# Altium integrated library DF01S.IntLib: 1 symbol
Pins are listed as number, name and electrical type; pins without a type are passive.

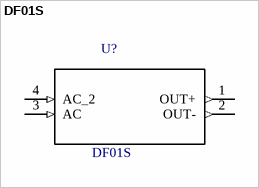
[diagram p0: symbol DF01S]

## DF01S
designator U?
Bridge Rectifier Single Phase Standard 100V Surface Mount DF-S; MF: ON Semiconductor; Price: None; Package: SMD-4 ON Semiconductor; SnapEDA_Link: https://www.snapeda.com/parts/DF01S/ON%20Semiconductor/view-part/2587579/?ref=snap; MP: DF01S; Availability: Unavailable; Value: *
footprint *SOT508P985X260-4N
pins: 1 OUT+ (out), 2 OUT- (out), 3 AC (in), 4 AC_2 (in)